# Altium schematic symbol library SCH - MCU - NUVOTON - NUVOTON M2354LJFAE.SchLib: 1 symbol
Pins are listed as number, name and electrical type; pins without a type are passive.

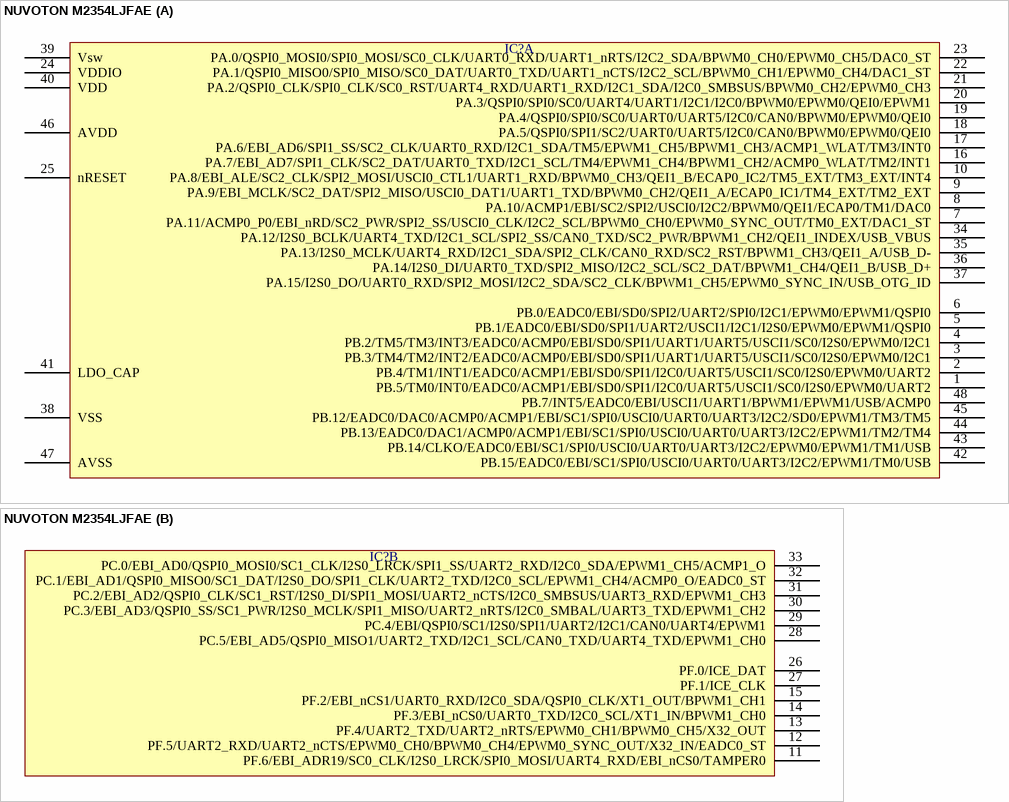
[diagram p0: symbol NUVOTON M2354LJFAE]

## NUVOTON M2354LJFAE
designator IC?  (value not drawn)
part A pins: 1 PB.5/TM0/INT0/EADC0/ACMP1/EBI/SD0/SPI1/I2C0/UART5/USCI1/SC0/I2S0/EPWM0/UART2, 2 PB.4/TM1/INT1/EADC0/ACMP1/EBI/SD0/SPI1/I2C0/UART5/USCI1/SC0/I2S0/EPWM0/UART2, 3 PB.3/TM4/TM2/INT2/EADC0/ACMP0/EBI/SD0/SPI1/UART1/UART5/USCI1/SC0/I2S0/EPWM0/I2C1, 4 PB.2/TM5/TM3/INT3/EADC0/ACMP0/EBI/SD0/SPI1/UART1/UART5/USCI1/SC0/I2S0/EPWM0/I2C1, 5 PB.1/EADC0/EBI/SD0/SPI1/UART2/USCI1/I2C1/I2S0/EPWM0/EPWM1/QSPI0, 6 PB.0/EADC0/EBI/SD0/SPI2/UART2/SPI0/I2C1/EPWM0/EPWM1/QSPI0, 7 PA.11/ACMP0_P0/EBI_nRD/SC2_PWR/SPI2_SS/USCI0_CLK/I2C2_SCL/BPWM0_CH0/EPWM0_SYNC_OUT/TM0_EXT/DAC1_ST, 8 PA.10/ACMP1/EBI/SC2/SPI2/USCI0/I2C2/BPWM0/QEI1/ECAP0/TM1/DAC0, 9 PA.9/EBI_MCLK/SC2_DAT/SPI2_MISO/USCI0_DAT1/UART1_TXD/BPWM0_CH2/QEI1_A/ECAP0_IC1/TM4_EXT/TM2_EXT, 10 PA.8/EBI_ALE/SC2_CLK/SPI2_MOSI/USCI0_CTL1/UART1_RXD/BPWM0_CH3/QEI1_B/ECAP0_IC2/TM5_EXT/TM3_EXT/INT4, 16 PA.7/EBI_AD7/SPI1_CLK/SC2_DAT/UART0_TXD/I2C1_SCL/TM4/EPWM1_CH4/BPWM1_CH2/ACMP0_WLAT/TM2/INT1, 17 PA.6/EBI_AD6/SPI1_SS/SC2_CLK/UART0_RXD/I2C1_SDA/TM5/EPWM1_CH5/BPWM1_CH3/ACMP1_WLAT/TM3/INT0, 18 PA.5/QSPI0/SPI1/SC2/UART0/UART5/I2C0/CAN0/BPWM0/EPWM0/QEI0, 19 PA.4/QSPI0/SPI0/SC0/UART0/UART5/I2C0/CAN0/BPWM0/EPWM0/QEI0, 20 PA.3/QSPI0/SPI0/SC0/UART4/UART1/I2C1/I2C0/BPWM0/EPWM0/QEI0/EPWM1, 21 PA.2/QSPI0_CLK/SPI0_CLK/SC0_RST/UART4_RXD/UART1_RXD/I2C1_SDA/I2C0_SMBSUS/BPWM0_CH2/EPWM0_CH3, 22 PA.1/QSPI0_MISO0/SPI0_MISO/SC0_DAT/UART0_TXD/UART1_nCTS/I2C2_SCL/BPWM0_CH1/EPWM0_CH4/DAC1_ST, 23 PA.0/QSPI0_MOSI0/SPI0_MOSI/SC0_CLK/UART0_RXD/UART1_nRTS/I2C2_SDA/BPWM0_CH0/EPWM0_CH5/DAC0_ST, 24 VDDIO, 25 nRESET, 34 PA.12/I2S0_BCLK/UART4_TXD/I2C1_SCL/SPI2_SS/CAN0_TXD/SC2_PWR/BPWM1_CH2/QEI1_INDEX/USB_VBUS, 35 PA.13/I2S0_MCLK/UART4_RXD/I2C1_SDA/SPI2_CLK/CAN0_RXD/SC2_RST/BPWM1_CH3/QEI1_A/USB_D-, 36 PA.14/I2S0_DI/UART0_TXD/SPI2_MISO/I2C2_SCL/SC2_DAT/BPWM1_CH4/QEI1_B/USB_D+, 37 PA.15/I2S0_DO/UART0_RXD/SPI2_MOSI/I2C2_SDA/SC2_CLK/BPWM1_CH5/EPWM0_SYNC_IN/USB_OTG_ID, 38 VSS, 39 Vsw, 40 VDD, 41 LDO_CAP, 42 PB.15/EADC0/EBI/SC1/SPI0/USCI0/UART0/UART3/I2C2/EPWM1/TM0/USB, 43 PB.14/CLKO/EADC0/EBI/SC1/SPI0/USCI0/UART0/UART3/I2C2/EPWM0/EPWM1/TM1/USB, 44 PB.13/EADC0/DAC1/ACMP0/ACMP1/EBI/SC1/SPI0/USCI0/UART0/UART3/I2C2/EPWM1/TM2/TM4, 45 PB.12/EADC0/DAC0/ACMP0/ACMP1/EBI/SC1/SPI0/USCI0/UART0/UART3/I2C2/SD0/EPWM1/TM3/TM5, 46 AVDD, 47 AVSS, 48 PB.7/INT5/EADC0/EBI/USCI1/UART1/BPWM1/EPWM1/USB/ACMP0
part B pins: 11 PF.6/EBI_ADR19/SC0_CLK/I2S0_LRCK/SPI0_MOSI/UART4_RXD/EBI_nCS0/TAMPER0, 12 PF.5/UART2_RXD/UART2_nCTS/EPWM0_CH0/BPWM0_CH4/EPWM0_SYNC_OUT/X32_IN/EADC0_ST, 13 PF.4/UART2_TXD/UART2_nRTS/EPWM0_CH1/BPWM0_CH5/X32_OUT, 14 PF.3/EBI_nCS0/UART0_TXD/I2C0_SCL/XT1_IN/BPWM1_CH0, 15 PF.2/EBI_nCS1/UART0_RXD/I2C0_SDA/QSPI0_CLK/XT1_OUT/BPWM1_CH1, 26 PF.0/ICE_DAT, 27 PF.1/ICE_CLK, 28 PC.5/EBI_AD5/QSPI0_MISO1/UART2_TXD/I2C1_SCL/CAN0_TXD/UART4_TXD/EPWM1_CH0, 29 PC.4/EBI/QSPI0/SC1/I2S0/SPI1/UART2/I2C1/CAN0/UART4/EPWM1, 30 PC.3/EBI_AD3/QSPI0_SS/SC1_PWR/I2S0_MCLK/SPI1_MISO/UART2_nRTS/I2C0_SMBAL/UART3_TXD/EPWM1_CH2, 31 PC.2/EBI_AD2/QSPI0_CLK/SC1_RST/I2S0_DI/SPI1_MOSI/UART2_nCTS/I2C0_SMBSUS/UART3_RXD/EPWM1_CH3, 32 PC.1/EBI_AD1/QSPI0_MISO0/SC1_DAT/I2S0_DO/SPI1_CLK/UART2_TXD/I2C0_SCL/EPWM1_CH4/ACMP0_O/EADC0_ST, 33 PC.0/EBI_AD0/QSPI0_MOSI0/SC1_CLK/I2S0_LRCK/SPI1_SS/UART2_RXD/I2C0_SDA/EPWM1_CH5/ACMP1_O